# Altium schematic symbol library Audio.SchLib: 119 symbols (part 2 of 2)
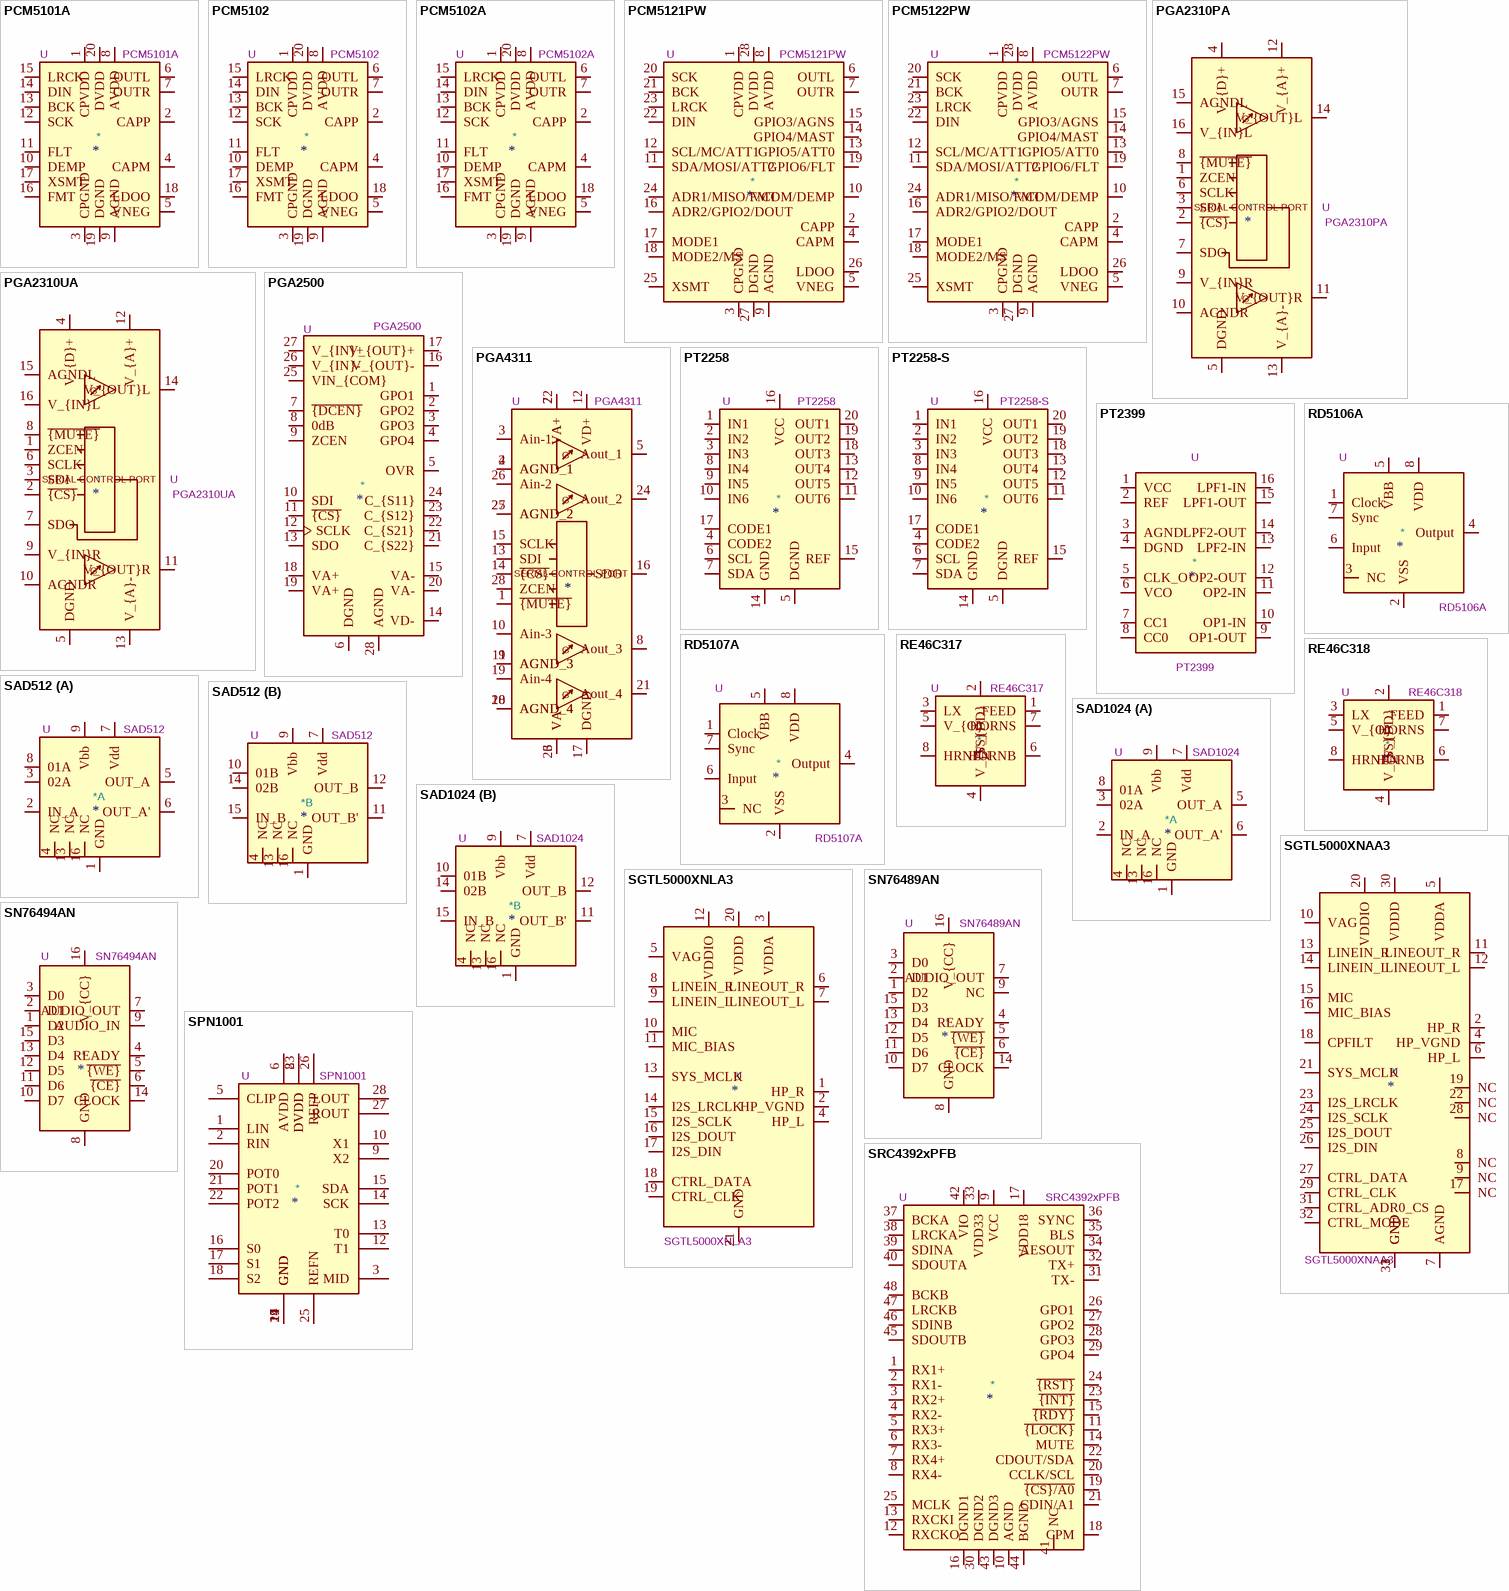
[diagram p6: symbols PCM5101A to SRC4392xPFB]

## PGA2310UA
designator *  value PGA2310UA  Reference: U
2-Channel Audio Volume Control, SPI Interface, +31.5dB to -95.5dB, SOL-16; ki_keywords: audio volume control 2ch spi; ki_fp_filters: SOIC*16W*7.5x10.3mm*P1.27mm*; Footprint: Package_SO:SOIC-16W_7.5x10.3mm_P1.27mm; Datasheet: https://www.ti.com.cn/cn/lit/gpn/pga2310; Description_: 2-Channel Audio Volume Control, SPI Interface, +31.5dB to -95.5dB, SOL-16
pins: 1 ZCEN, 2 ~{{CS}}, 3 SDI, 4 V_{D}+, 5 DGND, 6 SCLK, 7 SDO, 8 ~{{MUTE}}, 9 V_{IN}R, 10 AGNDR, 11 V_{OUT}R, 12 V_{A}+, 13 V_{A}-, 14 V_{OUT}L, 15 AGNDL, 16 V_{IN}L
text: G; SERIAL CONTROL PORT

## PGA2500
designator *  value PGA2500  Reference: U
Digitally Controlled Microphone Preamplifier; ki_fp_filters: SSOP*5.3*10.2mm*P0.65mm*; Footprint: Package_SO:SSOP-28_5.3x10.2mm_P0.65mm; Datasheet: https://www.ti.com/lit/ds/symlink/pga2500.pdf; Description_: Digitally Controlled Microphone Preamplifier; ki_keywords: Digitally Controlled Microphone Preamplifier
pins: 1 GPO1, 2 GPO2, 3 GPO3, 4 GPO4, 5 OVR, 6 DGND, 7 ~{{DCEN}}, 8 0dB, 9 ZCEN, 10 SDI, 11 ~{{CS}}, 12 SCLK, 13 SDO, 14 VD-, 15 VA-, 16 V_{OUT}-, 17 V_{OUT}+, 18 VA+, 19 VA+, 20 VA-, 21 C_{S22}, 22 C_{S21}, 23 C_{S12}, 24 C_{S11}, 25 VIN_{COM}, 26 V_{IN}-, 27 V_{IN}+, 28 AGND

## PGA4311
designator *  value PGA4311  Reference: U
4-Channel Audio Volume Control, SPI Interface, +31.5dB to -95.5dB, SOIC-28W; ki_keywords: audio volume control 4ch spi; ki_fp_filters: SOIC*7.5x17.9mm*P1.27mm*; Footprint: Package_SO:SOIC-28W_7.5x17.9mm_P1.27mm; Datasheet: http://www.ti.com/lit/ds/symlink/pga4311.pdf; Description_: 4-Channel Audio Volume Control, SPI Interface, +31.5dB to -95.5dB, SOIC-28W
pins: 1 ~{{MUTE}}, 2 AGND_1, 3 Ain-1, 4 AGND_1, 5 Aout_1, 6 VA-, 7 VA+, 8 Aout_3, 9 AGND_3, 10 Ain-3, 11 AGND_3, 12 VD+, 13 SDI, 14 ~{{CS}}, 15 SCLK, 16 SDO, 17 DGND, 18 AGND_4, 19 Ain-4, 20 AGND_4, 21 Aout_4, 22 VA+, 23 VA-, 24 Aout_2, 25 AGND_2, 26 Ain-2, 27 AGND_2, 28 ZCEN
text: G; SERIAL CONTROL PORT

## PT2258
designator *  value PT2258  Reference: U
6-Channel Electronic Volume Controller, DIP-20; ki_fp_filters: DIP*W7.62mm*; Footprint: Package_DIP:DIP-20_W7.62mm; Datasheet: http://www.princeton.com.tw/Portals/0/Product/PT2258-s.pdf; Description_: 6-Channel Electronic Volume Controller, DIP-20; ki_keywords: Volume
pins: 1 IN1, 2 IN2, 3 IN3, 4 CODE2, 5 DGND, 6 SCL, 7 SDA, 8 IN4, 9 IN5, 10 IN6, 11 OUT6, 12 OUT5, 13 OUT4, 14 GND, 15 REF, 16 VCC, 17 CODE1, 18 OUT3, 19 OUT2, 20 OUT1

## PT2258-S
designator *  value PT2258-S  Reference: U
6-Channel Electronic Volume Controller, SOP-20; ki_fp_filters: SO*12.8x7.5mm*P1.27mm*; Footprint: Package_SO:SO-20_12.8x7.5mm_P1.27mm; Datasheet: http://www.princeton.com.tw/Portals/0/Product/PT2258-s.pdf; Description_: 6-Channel Electronic Volume Controller, SOP-20; ki_keywords: Volume
pins: 1 IN1, 2 IN2, 3 IN3, 4 CODE2, 5 DGND, 6 SCL, 7 SDA, 8 IN4, 9 IN5, 10 IN6, 11 OUT6, 12 OUT5, 13 OUT4, 14 GND, 15 REF, 16 VCC, 17 CODE1, 18 OUT3, 19 OUT2, 20 OUT1

## PT2399
designator *  value PT2399  Reference: U
Echo Processor IC, DIP-16; ki_keywords: CMOS ADC DAC 44K Digital processing VCO; ki_fp_filters: DIP*W7.62mm*; Footprint: Package_DIP:DIP-16_W7.62mm; Datasheet: http://www.princeton.com.tw/Portals/0/Product/PT2399_1.pdf; Description_: Echo Processor IC, DIP-16
pins: 1 VCC, 2 REF, 3 AGND, 4 DGND, 5 CLK_O, 6 VCO, 7 CC1, 8 CC0, 9 OP1-OUT, 10 OP1-IN, 11 OP2-IN, 12 OP2-OUT, 13 LPF2-IN, 14 LPF2-OUT, 15 LPF1-OUT, 16 LPF1-IN

## RD5106A
designator *  value RD5106A  Reference: U
Analog Delay Line 256 sample bucket brigade device, 512usec to more than 1second, input signal frequency range 0 to 170KHz, clock frequency range 500Hz to 1MHz; ki_keywords: EG&G RETICON BBD N-channel silicon-gate; ki_fp_filters: DIP-8*; Datasheet: http://pdf.datasheetarchive.com/indexerfiles/Scans-091/DSAHI00048836.pdf; Description_: Analog Delay Line 256 sample bucket brigade device, 512usec to more than 1second, input signal frequency range 0 to 170KHz, clock frequency range 500Hz to 1MHz
pins: 1 Clock, 2 VSS, 3 NC, 4 Output, 5 VBB, 6 Input, 7 Sync, 8 VDD

## RD5107A
designator *  value RD5107A  Reference: U
Analog Delay Line 512 sample bucket brigade device, 1msec to more than 2seconds, input signal frequency range 0 to 170KHz, clock frequency range 500Hz to 1MHz; ki_keywords: EG&G RETICON BBD N-channel silicon-gate; ki_fp_filters: DIP-8*; Datasheet: http://pdf.datasheetarchive.com/indexerfiles/Scans-091/DSAHI00048836.pdf; Description_: Analog Delay Line 512 sample bucket brigade device, 1msec to more than 2seconds, input signal frequency range 0 to 170KHz, clock frequency range 500Hz to 1MHz
pins: 1 Clock, 2 VSS, 3 NC, 4 Output, 5 VBB, 6 Input, 7 Sync, 8 VDD

## RE46C317
designator *  value RE46C317  Reference: U
Piezoelectric Horn Driver with Boost Converter, 3.3V supply, Tri-State Horn Enable, SOIC-8; ki_keywords: Microchip step-up; ki_fp_filters: SOIC*8*3.9x4.9mm*P1.27mm* DIP*W7.62mm*; Datasheet: https://ww1.microchip.com/downloads/en/DeviceDoc/22301B.pdf; Description_: Piezoelectric Horn Driver with Boost Converter, 3.3V supply, Tri-State Horn Enable, SOIC-8
pins: 1 FEED, 2 V_{DD}, 3 LX, 4 V_{SS}, 5 V_{O}, 6 HORNB, 7 HORNS, 8 HRNEN

## RE46C318
designator *  value RE46C318  Reference: U
Piezoelectric Horn Driver with Boost Converter, 3.3V supply, SOIC-8; ki_keywords: Horn driver Piezo; ki_fp_filters: SOIC*8*3.9x4.9mm*P1.27mm* DIP*W7.62mm*; Datasheet: http://ww1.microchip.com/downloads/en/DeviceDoc/22301B.pdf; Description_: Piezoelectric Horn Driver with Boost Converter, 3.3V supply, SOIC-8
pins: 1 FEED, 2 V_{DD}, 3 LX, 4 V_{SS}, 5 V_{O}, 6 HORNB, 7 HORNS, 8 HRNEN

## SAD512
designator *  value SAD512  Reference: U
SAD-512 ANALOG DELAY LINE, bucket brigade device, 512 stages, signal frequency range 0 to 200KHz, clock frequency range 1.5KHz to 1.5MHz; ki_keywords: EG&G RETICON BBD N-channel silicon-gate; ki_fp_filters: DIP-16*; Datasheet: http://thmq.mysteria.cz/em1022/SAD1024.pdf; Description_: SAD-512 ANALOG DELAY LINE, bucket brigade device, 512 stages, signal frequency range 0 to 200KHz, clock frequency range 1.5KHz to 1.5MHz
part A pins: 1 GND, 2 IN_A, 3 02A, 4 NC, 5 OUT_A, 6 OUT_A', 7 Vdd, 8 01A, 9 Vbb, 13 NC, 16 NC
part B pins: 1 GND, 4 NC, 7 Vdd, 9 Vbb, 10 01B, 11 OUT_B', 12 OUT_B, 13 NC, 14 02B, 15 IN_B, 16 NC

## SAD1024
designator *  value SAD1024  Reference: U
SAD-1024 DUAL ANALOG DELAY LINE, bucket brigade device, 2 independent 512 stages, signal frequency range 0 to 200KHz, clock frequency range 1.5KHz to 1.5MHz; ki_keywords: EG&G RETICON BBD N-channel silicon-gate; ki_fp_filters: DIP-16*; Datasheet: http://thmq.mysteria.cz/em1022/SAD1024.pdf; Description_: SAD-1024 DUAL ANALOG DELAY LINE, bucket brigade device, 2 independent 512 stages, signal frequency range 0 to 200KHz, clock frequency range 1.5KHz to 1.5MHz
part A pins: 1 GND, 2 IN_A, 3 02A, 4 NC, 5 OUT_A, 6 OUT_A', 7 Vdd, 8 01A, 9 Vbb, 13 NC, 16 NC
part B pins: 1 GND, 4 NC, 7 Vdd, 9 Vbb, 10 01B, 11 OUT_B', 12 OUT_B, 13 NC, 14 02B, 15 IN_B, 16 NC

## SGTL5000XNAA3
designator *  value SGTL5000XNAA3  Reference: U
Low Power Stereo Codec with Headphone Amp, QFN-32; ki_fp_filters: QFN*1EP*5x5mm*P0.5mm*; Footprint: Package_DFN_QFN:QFN-32-1EP_5x5mm_P0.5mm_EP3.6x3.6mm; Datasheet: https://www.nxp.com/docs/en/data-sheet/SGTL5000.pdf; Description_: Low Power Stereo Codec with Headphone Amp, QFN-32; ki_keywords: Codec
pins: 1 GND, 2 HP_R, 3 GND, 4 HP_VGND, 5 VDDA, 6 HP_L, 7 AGND, 8 NC, 9 NC, 10 VAG, 11 LINEOUT_R, 12 LINEOUT_L, 13 LINEIN_R, 14 LINEIN_L, 15 MIC, 16 MIC_BIAS, 17 NC, 18 CPFILT, 19 NC, 20 VDDIO, 21 SYS_MCLK, 22 NC, 23 I2S_LRCLK, 24 I2S_SCLK, 25 I2S_DOUT, 26 I2S_DIN, 27 CTRL_DATA, 28 NC, 29 CTRL_CLK, 30 VDDD, 31 CTRL_ADR0_CS, 32 CTRL_MODE, 33 GND

## SGTL5000XNLA3
designator *  value SGTL5000XNLA3  Reference: U
Low Power Stereo Codec with Headphone Amp, QFN-20; ki_fp_filters: QFN*1EP*3x3mm*P0.4mm*; Footprint: Package_DFN_QFN:QFN-20-1EP_3x3mm_P0.4mm_EP1.65x1.65mm; Datasheet: https://www.nxp.com/docs/en/data-sheet/SGTL5000.pdf; Description_: Low Power Stereo Codec with Headphone Amp, QFN-20; ki_keywords: Codec
pins: 1 HP_R, 2 HP_VGND, 3 VDDA, 4 HP_L, 5 VAG, 6 LINEOUT_R, 7 LINEOUT_L, 8 LINEIN_R, 9 LINEIN_L, 10 MIC, 11 MIC_BIAS, 12 VDDIO, 13 SYS_MCLK, 14 I2S_LRCLK, 15 I2S_SCLK, 16 I2S_DOUT, 17 I2S_DIN, 18 CTRL_DATA, 19 CTRL_CLK, 20 VDDD, 21 GND

## SN76489AN
designator *  value SN76489AN  Reference: U
Digital Complex Sound Generator, 3 square wave channels, 1 noise channel, up to 4MHz clock input, DIP-16; ki_keywords: Texas-Instruments programmable-sound-generator PSG TTL-compatible Obsolete; ki_fp_filters: DIP*W7.62mm*; Footprint: Package_DIP:DIP-16_W7.62mm; Datasheet: https://www.vgmpf.com/Wiki/images/7/78/SN76489AN_-_Manual.pdf; Description_: Digital Complex Sound Generator, 3 square wave channels, 1 noise channel, up to 4MHz clock input, DIP-16
pins: 1 D2, 2 D1, 3 D0, 4 READY, 5 ~{{WE}}, 6 ~{{CE}}, 7 AUDIO_OUT, 8 GND, 9 NC, 10 D7, 11 D6, 12 D5, 13 D4, 14 CLOCK, 15 D3, 16 V_{CC}

## SN76494AN
designator *  value SN76494AN  Reference: U
Digital Complex Sound Generator, 3 square wave channels, 1 noise channel, up to 500kHz clock input, audio input pin, DIP-16; ki_keywords: Texas-Instruments programmable-sound-generator PSG TTL-compatible SN76489AN-replacement Obsolete; ki_fp_filters: DIP*W7.62mm*; Footprint: Package_DIP:DIP-16_W7.62mm; Datasheet: https://www.vgmpf.com/Wiki/images/9/9c/SN76494_-_Manual.pdf; Description_: Digital Complex Sound Generator, 3 square wave channels, 1 noise channel, up to 500kHz clock input, audio input pin, DIP-16
pins: 1 D2, 2 D1, 3 D0, 4 READY, 5 ~{{WE}}, 6 ~{{CE}}, 7 AUDIO_OUT, 8 GND, 9 AUDIO_IN, 10 D7, 11 D6, 12 D5, 13 D4, 14 CLOCK, 15 D3, 16 V_{CC}

## SPN1001
designator *  value SPN1001  Reference: U
Spin Semiconductor FV-1 Reverb IC, SOIC-28W; ki_keywords: SpinSemi FV-1 SPN1001; ki_fp_filters: SO*; Footprint: Package_SO:SOIC-28W_7.5x17.9mm_P1.27mm; Datasheet: http://www.spinsemi.com/Products/datasheets/spn1001/FV-1.pdf; Description_: Spin Semiconductor FV-1 Reverb IC, SOIC-28W
pins: 1 LIN, 2 RIN, 3 MID, 4 GND, 5 CLIP, 6 AVDD, 7 GND, 8 DVDD, 9 X2, 10 X1, 11 GND, 12 T1, 13 T0, 14 SCK, 15 SDA, 16 S0, 17 S1, 18 S2, 19 GND, 20 POT0, 21 POT1, 22 POT2, 23 DVDD, 24 GND, 25 REFN, 26 REFP, 27 ROUT, 28 LOUT

## SRC4392xPFB
designator *  value SRC4392xPFB  Reference: U
Two-Channel, Asynchronous Sample Rate Converter with Integrated Digital Audio Interface Receiver and Transmitter, TQFP-48; ki_keywords: audio sample rate converter; ki_fp_filters: TQFP*7x7mm*P0.5mm*; Footprint: Package_QFP:TQFP-48_7x7mm_P0.5mm; Datasheet: http://www.ti.com/lit/ds/symlink/src4392.pdf; Description_: Two-Channel, Asynchronous Sample Rate Converter with Integrated Digital Audio Interface Receiver and Transmitter, TQFP-48
pins: 1 RX1+, 2 RX1-, 3 RX2+, 4 RX2-, 5 RX3+, 6 RX3-, 7 RX4+, 8 RX4-, 9 VCC, 10 AGND, 11 ~{{LOCK}}, 12 RXCKO, 13 RXCKI, 14 MUTE, 15 ~{{RDY}}, 16 DGND1, 17 VDD18, 18 CPM, 19 ~{{CS}/A0}, 20 CCLK/SCL, 21 CDIN/A1, 22 CDOUT/SDA, 23 ~{{INT}}, 24 ~{{RST}}, 25 MCLK, 26 GPO1, 27 GPO2, 28 GPO3, 29 GPO4, 30 DGND2, 31 TX-, 32 TX+, 33 VDD33, 34 AESOUT, 35 BLS, 36 SYNC, 37 BCKA, 38 LRCKA, 39 SDINA, 40 SDOUTA, 41 NC, 42 VIO, 43 DGND3, 44 BGND, 45 SDOUTB, 46 SDINB, 47 LRCKB, 48 BCKB

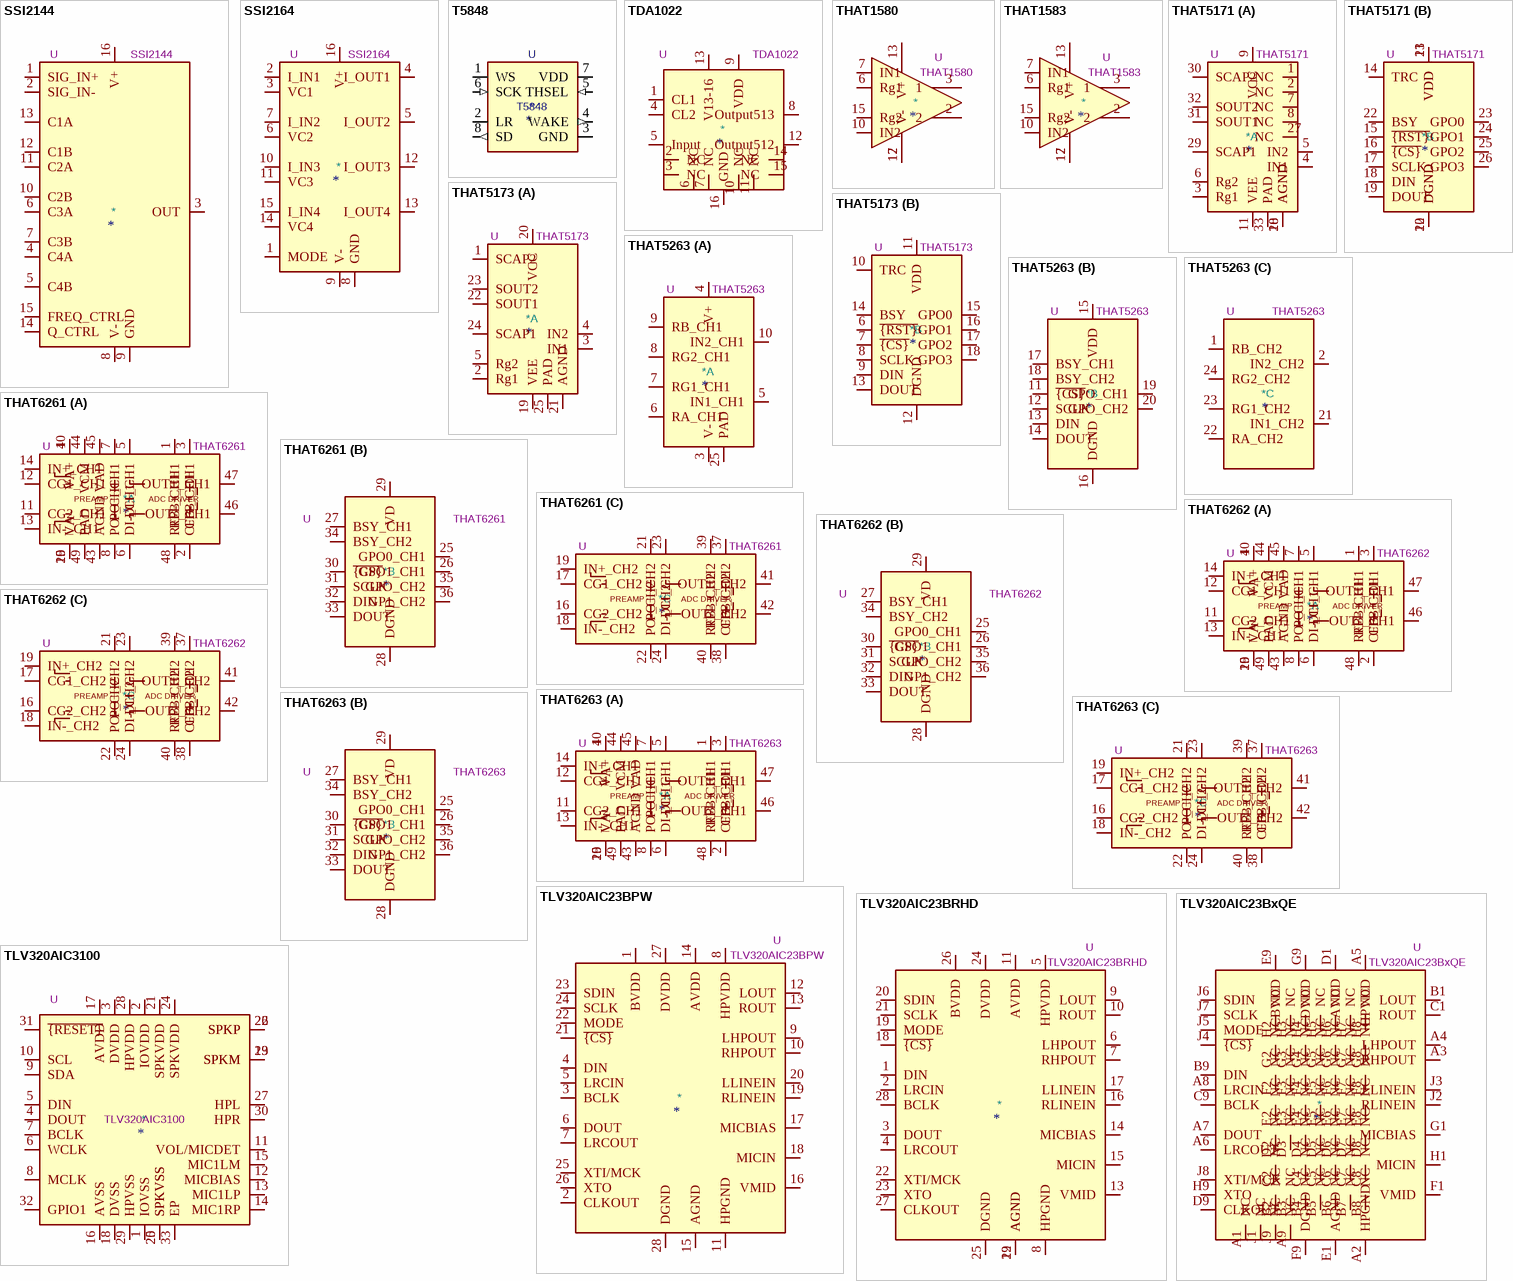
[diagram p4: symbols SSI2144 to TLV320AIC3100]

## SSI2144
designator *  value SSI2144  Reference: U
Four-pole VCF, SSOP-16; ki_keywords: Sound Semiconductor VCF SSM2044; ki_fp_filters: SSOP*3.9x4.9mm*P0.635mm*; Footprint: Package_SO:SSOP-16_3.9x4.9mm_P0.635mm; Datasheet: http://www.soundsemiconductor.com/downloads/ssi2144datasheet.pdf; Description_: Four-pole VCF, SSOP-16
pins: 1 SIG_IN+, 2 SIG_IN-, 3 OUT, 4 C4A, 5 C4B, 6 C3A, 7 C3B, 8 V-, 9 GND, 10 C2B, 11 C2A, 12 C1B, 13 C1A, 14 Q_CTRL, 15 FREQ_CTRL, 16 V+

## SSI2164
designator *  value SSI2164  Reference: U
Quad VCA, SOIC-16; ki_keywords: Sound Semiconductor VCA SSM2164; ki_fp_filters: SOIC*3.9x9.9mm*P1.27mm*; Footprint: Package_SO:SOIC-16_3.9x9.9mm_P1.27mm; Datasheet: http://www.soundsemiconductor.com/downloads/ssi2164datasheet.pdf; Description_: Quad VCA, SOIC-16
pins: 1 MODE, 2 I_IN1, 3 VC1, 4 I_OUT1, 5 I_OUT2, 6 VC2, 7 I_IN2, 8 GND, 9 V-, 10 I_IN3, 11 VC3, 12 I_OUT3, 13 I_OUT4, 14 VC4, 15 I_IN4, 16 V+

## T5848
designator *  value T5848  Reference: U
T5848 - Bottom Port I2S Digital Output Multi-Mode Microphone; Footprint: Audio_Sensor_User:InvenSense_T5848-8_3.5x2.65mm; Datasheet: https://invensense.tdk.com/wp-content/uploads/2024/04/DS-000479-T5848-Datasheet-v1.0.pdf; Description_: T5848 - Bottom Port I2S Digital Output Multi-Mode Microphone
pins: 1 WS (io), 2 LR (power), 3 GND (power), 4 WAKE (out), 5 THSEL (in), 6 SCK (in), 7 VDD (power), 8 SD (out)

## TDA1022
designator *  value TDA1022  Reference: U
BUCKET BRIGADE DELAY LINE FOR ANALOGUE SIGNALS, 512 stages, delay time 0.512ms to 51.2ms, signal frequency range 0 to 45KHz, clock frequency range 5KHz to 500KHz, DIP-16; ki_keywords: PHILIPS BBD MOS monolithic delay analogue; ki_fp_filters: DIP*W7.62mm*; Footprint: Package_DIP:DIP-16_W7.62mm; Datasheet: http://thmq.mysteria.cz/em1022/TDA1022.pdf; Description_: BUCKET BRIGADE DELAY LINE FOR ANALOGUE SIGNALS, 512 stages, delay time 0.512ms to 51.2ms, signal frequency range 0 to 45KHz, clock frequency range 5KHz to 500KHz, DIP-16
pins: 1 CL1, 2 NC, 3 NC, 4 CL2, 5 Input, 6 NC, 7 NC, 8 Output513, 9 VDD, 10 NC, 11 NC, 12 Output512, 13 V13-16, 14 NC, 15 NC, 16 GND

## THAT1580
designator *  value THAT1580  Reference: U
Low-Noise, Differential Audio Preamplifier IC, 0.005% THD+N, -134.8dBu EIN, QFN-16; ki_keywords: diff amp mic preamp; ki_fp_filters: QFN*1EP*4x4mm*P0.65mm*; Footprint: Package_DFN_QFN:QFN-16-1EP_4x4mm_P0.65mm_EP2.1x2.1mm_ThermalVias; Datasheet: http://www.thatcorp.com/datashts/THAT_1580_Datasheet.pdf; Description_: Low-Noise, Differential Audio Preamplifier IC, 0.005% THD+N, -134.8dBu EIN, QFN-16
pins: 2, 3 1, 6 Rg1, 7 IN1, 10 IN2, 12 V-, 13 V+, 15 Rg2, 17 V-

## THAT1583
designator *  value THAT1583  Reference: U
Low-Noise, Differential Audio Preamplifier IC, 0.006% THD+N, -128.9dBu EIN, QFN-16; ki_keywords: diff amp mic preamp; ki_fp_filters: QFN*1EP*4x4mm*P0.65mm*; Footprint: Package_DFN_QFN:QFN-16-1EP_4x4mm_P0.65mm_EP2.1x2.1mm_ThermalVias; Datasheet: http://www.thatcorp.com/datashts/THAT_1583_Datasheet.pdf; Description_: Low-Noise, Differential Audio Preamplifier IC, 0.006% THD+N, -128.9dBu EIN, QFN-16
pins: 2, 3 1, 6 Rg1, 7 IN1, 10 IN2, 12 V-, 13 V+, 15 Rg2, 17 V-

## THAT5171
designator *  value THAT5171  Reference: U
High-Performance Digital Preamplifier Controller IC, QFN-32; ki_keywords: mic preamp gain controller; ki_fp_filters: QFN*1EP*7x7mm*P0.65mm*; Footprint: Package_DFN_QFN:QFN-32-1EP_7x7mm_P0.65mm_EP5.4x5.4mm; Datasheet: http://www.thatcorp.com/datashts/THAT_5171_Datasheet.pdf; Description_: High-Performance Digital Preamplifier Controller IC, QFN-32
part A pins: 1 NC, 2 NC, 3 Rg1, 4 IN1, 5 IN2, 6 Rg2, 7 NC, 8 NC, 9 VCC, 10 AGND, 11 VEE, 27 NC, 28 AGND, 29 SCAP1, 30 SCAP2, 31 SOUT1, 32 SOUT2, 33 PAD
part B pins: 12 DGND, 13 VDD, 14 TRC, 15 ~{{RST}}, 16 ~{{CS}}, 17 SCLK, 18 DIN, 19 DOUT, 20 DGND, 21 VDD, 22 BSY, 23 GPO0, 24 GPO1, 25 GPO2, 26 GPO3

## THAT5173
designator *  value THAT5173  Reference: U
Audio Preamplifier Digital Controller IC, QFN-24; ki_keywords: mic preamp gain controller; ki_fp_filters: QFN*1EP*5x5mm*P0.65mm*; Footprint: Package_DFN_QFN:QFN-24-1EP_5x5mm_P0.65mm_EP3.4x3.4mm; Datasheet: http://www.thatcorp.com/datashts/THAT_5173_Datasheet.pdf; Description_: Audio Preamplifier Digital Controller IC, QFN-24
part A pins: 1 SCAP2, 2 Rg1, 3 IN1, 4 IN2, 5 Rg2, 19 VEE, 20 VCC, 21 AGND, 22 SOUT1, 23 SOUT2, 24 SCAP1, 25 PAD
part B pins: 6 ~{{RST}}, 7 ~{{CS}}, 8 SCLK, 9 DIN, 10 TRC, 11 VDD, 12 DGND, 13 DOUT, 14 BSY, 15 GPO0, 16 GPO1, 17 GPO2, 18 GPO3

## THAT5263
designator *  value THAT5263  Reference: U
2-Channel Digital Preamplifier Controller IC, QFN-24; ki_keywords: dual mic preamp gain controller; ki_fp_filters: QFN*1EP*5x5mm*P0.65mm*; Footprint: Package_DFN_QFN:QFN-24-1EP_5x5mm_P0.65mm_EP3.4x3.4mm; Datasheet: http://www.thatcorp.com/datashts/THAT_5263_Datasheet.pdf; Description_: 2-Channel Digital Preamplifier Controller IC, QFN-24
part A pins: 3 V-, 4 V+, 5 IN1_CH1, 6 RA_CH1, 7 RG1_CH1, 8 RG2_CH1, 9 RB_CH1, 10 IN2_CH1, 25 PAD
part B pins: 11 ~{{CS}}, 12 SCLK, 13 DIN, 14 DOUT, 15 VDD, 16 DGND, 17 BSY_CH1, 18 BSY_CH2, 19 GPO_CH1, 20 GPO_CH2
part C pins: 1 RB_CH2, 2 IN2_CH2, 21 IN1_CH2, 22 RA_CH2, 23 RG1_CH2, 24 RG2_CH2

## THAT6261
designator *  value THAT6261  Reference: U
2-Channel Low-Noise Programmable-Gain Preamplifier - ADC Driver IC, 1dB Step, QFN-48; ki_keywords: dual mic preamp; ki_fp_filters: QFN*1EP*7x7mm*P0.5mm*; Footprint: Package_DFN_QFN:QFN-48-1EP_7x7mm_P0.5mm_EP5.45x5.45mm; Datasheet: http://www.thatcorp.com/datashts/THAT_626x_Datasheet.pdf; Description_: 2-Channel Low-Noise Programmable-Gain Preamplifier - ADC Driver IC, 1dB Step, QFN-48
part A pins: 1 RFB+_CH1, 2 CFB-_CH1, 3 CFB+_CH1, 4 VA+, 5 DI+_CH1, 6 DI-_CH1, 7 PO+_CH1, 8 PO-_CH1, 9 VA-, 10 VA+, 11 CG2_CH1, 12 CG1_CH1, 13 IN-_CH1, 14 IN+_CH1, 15 VA-, 20 VA-, 43 AGND, 44 VCM, 45 VAD, 46 OUT-_CH1, 47 OUT+_CH1, 48 RFB-_CH1, 49 PAD
part B pins: 25 GPO0_CH1, 26 GPO1_CH1, 27 BSY_CH1, 28 DGND, 29 VD, 30 ~{{CS}}, 31 SCLK, 32 DIN, 33 DOUT, 34 BSY_CH2, 35 GPO_CH2, 36 GP1_CH2
part C pins: 16 CG2_CH2, 17 CG1_CH2, 18 IN-_CH2, 19 IN+_CH2, 21 PO+_CH2, 22 PO-_CH2, 23 DI+_CH2, 24 DI-_CH2, 37 CFB+_CH2, 38 CFB-_CH2, 39 RFB+_CH2, 40 RFB-_CH2, 41 OUT+_CH2, 42 OUT-_CH2
part A text: PREAMP; ADC DRIVER
part C text: PREAMP; ADC DRIVER

## THAT6262
designator *  value THAT6262  Reference: U
2-Channel Low-Noise Programmable-Gain Preamplifier - ADC Driver IC, 2dB Step, QFN-48; ki_keywords: dual mic preamp; ki_fp_filters: QFN*1EP*7x7mm*P0.5mm*; Footprint: Package_DFN_QFN:QFN-48-1EP_7x7mm_P0.5mm_EP5.45x5.45mm; Datasheet: http://www.thatcorp.com/datashts/THAT_626x_Datasheet.pdf; Description_: 2-Channel Low-Noise Programmable-Gain Preamplifier - ADC Driver IC, 2dB Step, QFN-48
part A pins: 1 RFB+_CH1, 2 CFB-_CH1, 3 CFB+_CH1, 4 VA+, 5 DI+_CH1, 6 DI-_CH1, 7 PO+_CH1, 8 PO-_CH1, 9 VA-, 10 VA+, 11 CG2_CH1, 12 CG1_CH1, 13 IN-_CH1, 14 IN+_CH1, 15 VA-, 20 VA-, 43 AGND, 44 VCM, 45 VAD, 46 OUT-_CH1, 47 OUT+_CH1, 48 RFB-_CH1, 49 PAD
part B pins: 25 GPO0_CH1, 26 GPO1_CH1, 27 BSY_CH1, 28 DGND, 29 VD, 30 ~{{CS}}, 31 SCLK, 32 DIN, 33 DOUT, 34 BSY_CH2, 35 GPO_CH2, 36 GP1_CH2
part C pins: 16 CG2_CH2, 17 CG1_CH2, 18 IN-_CH2, 19 IN+_CH2, 21 PO+_CH2, 22 PO-_CH2, 23 DI+_CH2, 24 DI-_CH2, 37 CFB+_CH2, 38 CFB-_CH2, 39 RFB+_CH2, 40 RFB-_CH2, 41 OUT+_CH2, 42 OUT-_CH2
part A text: PREAMP; ADC DRIVER
part C text: PREAMP; ADC DRIVER

## THAT6263
designator *  value THAT6263  Reference: U
2-Channel Low-Noise Programmable-Gain Preamplifier - ADC Driver IC, 3dB Step, QFN-48; ki_keywords: dual mic preamp; ki_fp_filters: QFN*1EP*7x7mm*P0.5mm*; Footprint: Package_DFN_QFN:QFN-48-1EP_7x7mm_P0.5mm_EP5.45x5.45mm; Datasheet: http://www.thatcorp.com/datashts/THAT_626x_Datasheet.pdf; Description_: 2-Channel Low-Noise Programmable-Gain Preamplifier - ADC Driver IC, 3dB Step, QFN-48
part A pins: 1 RFB+_CH1, 2 CFB-_CH1, 3 CFB+_CH1, 4 VA+, 5 DI+_CH1, 6 DI-_CH1, 7 PO+_CH1, 8 PO-_CH1, 9 VA-, 10 VA+, 11 CG2_CH1, 12 CG1_CH1, 13 IN-_CH1, 14 IN+_CH1, 15 VA-, 20 VA-, 43 AGND, 44 VCM, 45 VAD, 46 OUT-_CH1, 47 OUT+_CH1, 48 RFB-_CH1, 49 PAD
part B pins: 25 GPO0_CH1, 26 GPO1_CH1, 27 BSY_CH1, 28 DGND, 29 VD, 30 ~{{CS}}, 31 SCLK, 32 DIN, 33 DOUT, 34 BSY_CH2, 35 GPO_CH2, 36 GP1_CH2
part C pins: 16 CG2_CH2, 17 CG1_CH2, 18 IN-_CH2, 19 IN+_CH2, 21 PO+_CH2, 22 PO-_CH2, 23 DI+_CH2, 24 DI-_CH2, 37 CFB+_CH2, 38 CFB-_CH2, 39 RFB+_CH2, 40 RFB-_CH2, 41 OUT+_CH2, 42 OUT-_CH2
part A text: PREAMP; ADC DRIVER
part C text: PREAMP; ADC DRIVER

## TLV320AIC23BPW
designator *  value TLV320AIC23BPW  Reference: U
Stero Audio CODEC, 8- to 96-kHz, With Integrated Headphone Amplifier, TSSOP-28; ki_keywords: audio codec 2ch 96kHz headphone amplifier; ki_fp_filters: TSSOP*4.4x9.7mm*P0.65mm*; Footprint: Package_SO:TSSOP-28_4.4x9.7mm_P0.65mm; Datasheet: http://www.ti.com/lit/ds/symlink/tlv320aic23b.pdf; Description_: Stero Audio CODEC, 8- to 96-kHz, With Integrated Headphone Amplifier, TSSOP-28
pins: 1 BVDD, 2 CLKOUT, 3 BCLK, 4 DIN, 5 LRCIN, 6 DOUT, 7 LRCOUT, 8 HPVDD, 9 LHPOUT, 10 RHPOUT, 11 HPGND, 12 LOUT, 13 ROUT, 14 AVDD, 15 AGND, 16 VMID, 17 MICBIAS, 18 MICIN, 19 RLINEIN, 20 LLINEIN, 21 ~{{CS}}, 22 MODE, 23 SDIN, 24 SCLK, 25 XTI/MCK, 26 XTO, 27 DVDD, 28 DGND

## TLV320AIC23BRHD
designator *  value TLV320AIC23BRHD  Reference: U
Stero Audio CODEC, 8- to 96-kHz, With Integrated Headphone Amplifier, QFN-28; ki_keywords: audio codec 2ch 96kHz headphone amplifier; ki_fp_filters: QFN*5x5mm*P0.5mm*; Footprint: Package_DFN_QFN:QFN-28-1EP_5x5mm_P0.5mm_EP3.35x3.35mm; Datasheet: http://www.ti.com/lit/ds/symlink/tlv320aic23b.pdf; Description_: Stero Audio CODEC, 8- to 96-kHz, With Integrated Headphone Amplifier, QFN-28
pins: 1 DIN, 2 LRCIN, 3 DOUT, 4 LRCOUT, 5 HPVDD, 6 LHPOUT, 7 RHPOUT, 8 HPGND, 9 LOUT, 10 ROUT, 11 AVDD, 12 AGND, 13 VMID, 14 MICBIAS, 15 MICIN, 16 RLINEIN, 17 LLINEIN, 18 ~{{CS}}, 19 MODE, 20 SDIN, 21 SCLK, 22 XTI/MCK, 23 XTO, 24 DVDD, 25 DGND, 26 BVDD, 27 CLKOUT, 28 BCLK, 29 AGND

## TLV320AIC23BxQE
designator *  value TLV320AIC23BxQE  Reference: U
Stero Audio CODEC, 8- to 96-kHz, With Integrated Headphone Amplifier, BGA-32; ki_keywords: audio codec 2ch 96kHz headphone amplifier; ki_fp_filters: *MicroStar*Junior*BGA*5*x5*mm*P0.5mm*; Footprint: Package_BGA:Texas_MicroStar_Junior_BGA-80_5.0x5.0mm_Layout9x9_P0.5mm; Datasheet: http://www.ti.com/lit/ds/symlink/tlv320aic23b.pdf; Description_: Stero Audio CODEC, 8- to 96-kHz, With Integrated Headphone Amplifier, BGA-32
pins: A1 NC, A2 HPGND, A3 RHPOUT, A4 LHPOUT, A5 HPVDD, A6 LRCOUT, A7 DOUT, A8 LRCIN, A9 NC, B1 LOUT, B2 NC, B3 NC, B4 NC, B5 NC, B6 NC, B7 NC, B8 NC, B9 DIN, C1 ROUT, C2 NC, C4 NC, C5 NC, C6 NC, C7 NC, C8 NC, C9 BCLK, D1 AVDD, D2 NC, D3 NC, D4 NC, D5 NC, D6 NC, D7 NC, D8 NC, D9 CLKOUT, E1 AGND, E2 NC, E3 NC, E4 NC, E5 NC, E6 NC, E7 NC, E8 NC, E9 BVDD, F1 VMID, F2 NC, F3 NC, F4 NC, F5 NC, F6 NC, F7 NC, F8 NC, F9 DGND, G1 MICBIAS, G2 NC, G3 NC, G4 NC, G5 NC, G6 NC, G7 NC, G8 NC, G9 DVDD, H1 MICIN, H2 NC, H3 NC, H4 NC, H5 NC, H6 NC, H7 NC, H8 NC, H9 XTO, J1 NC, J2 RLINEIN, J3 LLINEIN, J4 ~{{CS}}, J5 MODE, J6 SDIN, J7 SCLK, J8 XTI/MCK, J9 NC

## TLV320AIC3100
designator *  value TLV320AIC3100  Reference: U
Low Power Audio Codec with Audio Processing and Mono Class‑D Amplifier, VQFN-32; ki_keywords: audio codec 2ch 192kHz class-d amplifier; ki_fp_filters: VQFN*1EP*5x5mm*P0.5mm*; Footprint: Package_DFN_QFN:VQFN-32-1EP_5x5mm_P0.5mm_EP3.5x3.5mm; Datasheet: http://www.ti.com/lit/ds/symlink/tlv320aic3100.pdf; Description_: Low Power Audio Codec with Audio Processing and Mono Class‑D Amplifier, VQFN-32
pins: 1 IOVSS, 2 IOVDD, 3 DVDD, 4 DOUT, 5 DIN, 6 WCLK, 7 BCLK, 8 MCLK, 9 SDA, 10 SCL, 11 VOL/MICDET, 12 MICBIAS, 13 MIC1LP, 14 MIC1RP, 15 MIC1LM, 16 AVSS, 17 AVDD, 18 DVSS, 19 SPKM, 20 SPKVSS, 21 SPKVDD, 22 SPKP, 23 SPKM, 24 SPKVDD, 25 SPKVSS, 26 SPKP, 27 HPL, 28 HPVDD, 29 HPVSS, 30 HPR, 31 ~{{RESET}}, 32 GPIO1, 33 EP

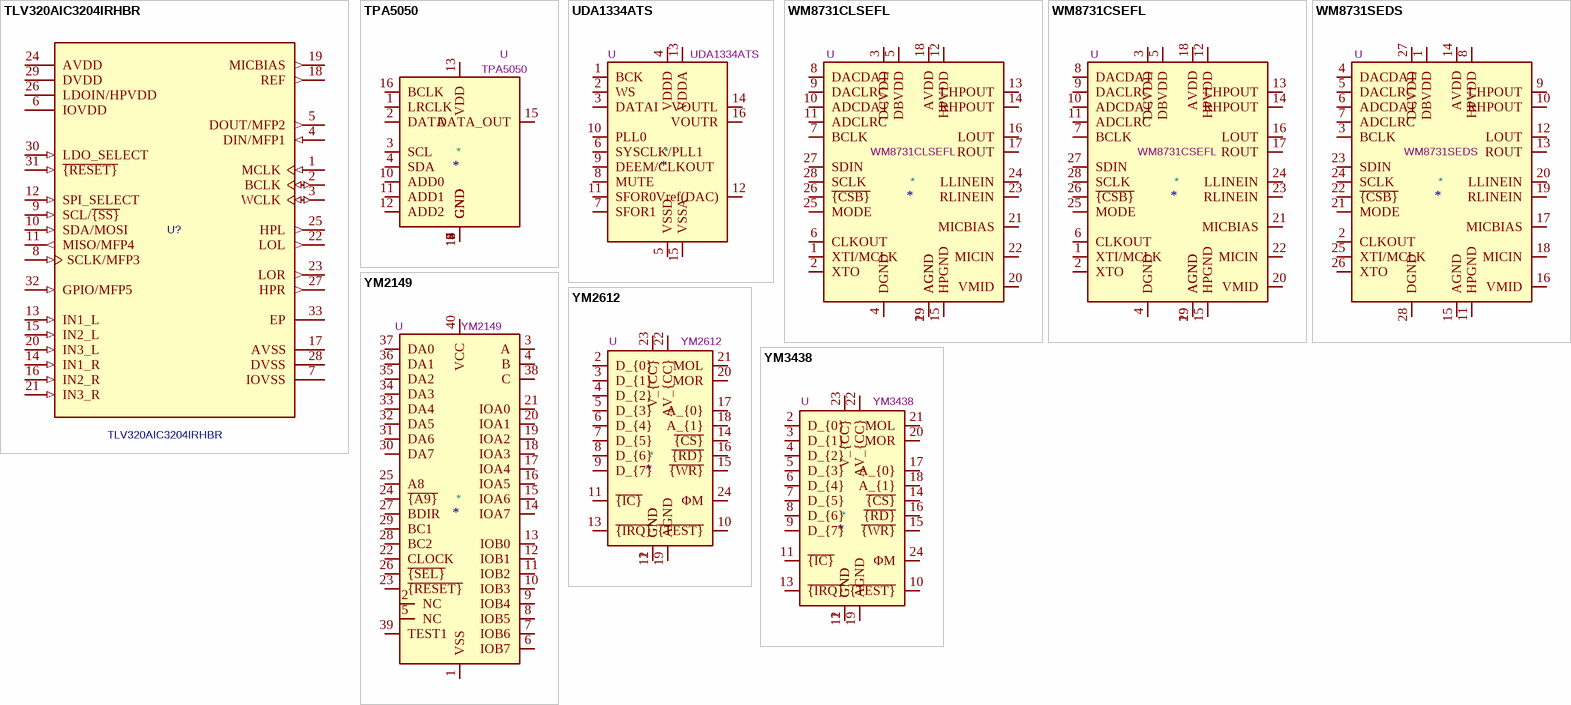
[diagram p5: symbols TLV320AIC3204IRHBR to YM3438]

## TLV320AIC3204IRHBR
designator U?  value TLV320AIC3204IRHBR  (hidden comment: *)
Very-Low-Power Stereo Audio CODEC With PowerTune™ Technology; Manufacturer: Texas Instruments; Manufacturer Lifecycle Status: ACTIVE; Interface: I2C, SPI, Serial; Max Supply Voltage: 3.6V; Min Supply Voltage: 1.1V; Number of A/D Converters: 2; Number of Analog Inputs: 6; Number of Analog Outputs: 4; Power Consumption: 4.1mW; Resolution: 4B; Sampling Rate: 192ksps; Signal to Noise Ratio (SNR): 100dB; Reference: U; Datasheet: https://www.ti.com/product/TLV320AIC3204/part-details/TLV320AIC3204IRHBR; Description_: Very-Low-Power Stereo Audio CODEC With PowerTune™ Technology; ki_keywords: Stereo Audio CODEC; Case/Package: VQFN; Category: Amplifiers - Op Amps, Buffer, Instrumentation; Contact Plating: Gold; Height: 1mm; Lead Free: Lead Free; Length: 5mm; Lifecycle Status: Production; Manufacturer Part Number: TLV320AIC3204IRHBR; Max Operating Temperature: 85°C; Min Operating Temperature: -40°C; Number of ADC Channels: 2; Number of D/A Converters: 2; Number of DAC Channels: 2; Pins: 32; Radiation Hardening: No; REACH SVHC: No; RoHS: Compliant; Schedule B: 8542390000, 8542390000|8542390000|8542390000|8542390000|8542390000; Thickness: 900µm; Type: General Purpose; Weight: 71.809342mg; Width: 5mm; Supplier 1: Mouser; Supplier Part Number 1: 595-V320AIC3204IRHBR; Supplier Packaging 1: Tape & Reel; Supplier Unit Price 1: $5.14; Supplier Location 1: US; DNP: *
footprint QFN-32-1EP_5x5mm_P0.5mm_EP3.3x3.3mm
pins: 1 MCLK (in), 2 BCLK (io), 3 WCLK (io), 4 DIN/MFP1 (in), 5 DOUT/MFP2 (out), 6 IOVDD (power), 7 IOVSS (power), 8 SCLK/MFP3 (in), 9 SCL/~{{SS}} (in), 10 SDA/MOSI (in), 11 MISO/MFP4 (out), 12 SPI_SELECT (in), 13 IN1_L (in), 14 IN1_R (in), 15 IN2_L (in), 16 IN2_R (in), 17 AVSS (power), 18 REF (out), 19 MICBIAS (out), 20 IN3_L (in), 21 IN3_R (in), 22 LOL (out), 23 LOR (out), 24 AVDD (power), 25 HPL (out), 26 LDOIN/HPVDD (power), 27 HPR (out), 28 DVSS (power), 29 DVDD (power), 30 LDO_SELECT (in), 31 ~{{RESET}} (in), 32 GPIO/MFP5 (in), 33 EP

## TPA5050
designator *  value TPA5050  Reference: U
Stereo Digital Audio Lip-Sync Delay Processor With I2C Control, QFN-16; ki_keywords: audio delay; ki_fp_filters: Texas?S?PVQFN?N*; Footprint: Package_DFN_QFN:Texas_S-PVQFN-N16_EP2.7x2.7mm_ThermalVias; Datasheet: http://www.ti.com/lit/ds/symlink/tpa5050.pdf; Description_: Stereo Digital Audio Lip-Sync Delay Processor With I2C Control, QFN-16
pins: 1 LRCLK, 2 DATA, 3 SCL, 4 SDA, 5 GND, 6 GND, 7 GND, 8 GND, 9 GND, 10 ADD0, 11 ADD1, 12 ADD2, 13 VDD, 14 GND, 15 DATA_OUT, 16 BCLK, 17 GND

## UDA1334ATS
designator *  value UDA1334ATS  Reference: U
Low Power Audio DAC with PLL, SSOP-16; ki_keywords: audio dac 2ch 24bit 96kHz; ki_fp_filters: SSOP*4.4x5.2mm*P0.65mm*; Footprint: Package_SO:SSOP-16_4.4x5.2mm_P0.65mm; Datasheet: http://www.nxp.com/docs/en/data-sheet/UDA1334ATS.pdf; Description_: Low Power Audio DAC with PLL, SSOP-16
pins: 1 BCK, 2 WS, 3 DATAI, 4 VDDD, 5 VSSD, 6 SYSCLK/PLL1, 7 SFOR1, 8 MUTE, 9 DEEM/CLKOUT, 10 PLL0, 11 SFOR0, 12 Vref(DAC), 13 VDDA, 14 VOUTL, 15 VSSA, 16 VOUTR

## WM8731CLSEFL
designator *  value WM8731CLSEFL  Reference: U
Portable Internet Audio CODEC with Headphone Driver and Programmable Sample Rates, QFN-28; ki_keywords: wolfson stereo audio codec adc dac headphone; ki_fp_filters: QFN*1EP*5x5mm*P0.5mm*; Footprint: Package_DFN_QFN:QFN-28-1EP_5x5mm_P0.5mm_EP3.35x3.35mm; Datasheet: https://statics.cirrus.com/pubs/proDatasheet/WM8731_v4.9.pdf; Description_: Portable Internet Audio CODEC with Headphone Driver and Programmable Sample Rates, QFN-28
pins: 1 XTI/MCLK, 2 XTO, 3 DCVDD, 4 DGND, 5 DBVDD, 6 CLKOUT, 7 BCLK, 8 DACDAT, 9 DACLRC, 10 ADCDAT, 11 ADCLRC, 12 HPVDD, 13 LHPOUT, 14 RHPOUT, 15 HPGND, 16 LOUT, 17 ROUT, 18 AVDD, 19 AGND, 20 VMID, 21 MICBIAS, 22 MICIN, 23 RLINEIN, 24 LLINEIN, 25 MODE, 26 ~{{CSB}}, 27 SDIN, 28 SCLK, 29 AGND

## WM8731CSEFL
designator *  value WM8731CSEFL  Reference: U
Portable Internet Audio CODEC with Headphone Driver and Programmable Sample Rates, QFN-28; ki_keywords: wolfson stereo audio codec adc dac headphone; ki_fp_filters: QFN*1EP*5x5mm*P0.5mm*; Footprint: Package_DFN_QFN:QFN-28-1EP_5x5mm_P0.5mm_EP3.35x3.35mm; Datasheet: https://statics.cirrus.com/pubs/proDatasheet/WM8731_v4.9.pdf; Description_: Portable Internet Audio CODEC with Headphone Driver and Programmable Sample Rates, QFN-28
pins: 1 XTI/MCLK, 2 XTO, 3 DCVDD, 4 DGND, 5 DBVDD, 6 CLKOUT, 7 BCLK, 8 DACDAT, 9 DACLRC, 10 ADCDAT, 11 ADCLRC, 12 HPVDD, 13 LHPOUT, 14 RHPOUT, 15 HPGND, 16 LOUT, 17 ROUT, 18 AVDD, 19 AGND, 20 VMID, 21 MICBIAS, 22 MICIN, 23 RLINEIN, 24 LLINEIN, 25 MODE, 26 ~{{CSB}}, 27 SDIN, 28 SCLK, 29 AGND

## WM8731SEDS
designator *  value WM8731SEDS  Reference: U
Portable Internet Audio CODEC with Headphone Driver and Programmable Sample Rates, SSOP-28; ki_keywords: wolfson stereo audio codec adc dac headphone; ki_fp_filters: SSOP*5.3x10.2mm*P0.65mm*; Footprint: Package_SO:SSOP-28_5.3x10.2mm_P0.65mm; Datasheet: https://statics.cirrus.com/pubs/proDatasheet/WM8731_v4.9.pdf; Description_: Portable Internet Audio CODEC with Headphone Driver and Programmable Sample Rates, SSOP-28
pins: 1 DBVDD, 2 CLKOUT, 3 BCLK, 4 DACDAT, 5 DACLRC, 6 ADCDAT, 7 ADCLRC, 8 HPVDD, 9 LHPOUT, 10 RHPOUT, 11 HPGND, 12 LOUT, 13 ROUT, 14 AVDD, 15 AGND, 16 VMID, 17 MICBIAS, 18 MICIN, 19 RLINEIN, 20 LLINEIN, 21 MODE, 22 ~{{CSB}}, 23 SDIN, 24 SCLK, 25 XTI/MCLK, 26 XTO, 27 DCVDD, 28 DGND

## YM2149
designator *  value YM2149  Reference: U
Software-Controlled Sound Generator, DIP-40; ki_keywords: audio ssg 3ch; ki_fp_filters: DIP*W15.24mm*; Footprint: Package_DIP:DIP-40_W15.24mm; Datasheet: http://www.ym2149.com/ym2149.pdf; Description_: Software-Controlled Sound Generator, DIP-40
pins: 1 VSS, 2 NC, 3 A, 4 B, 5 NC, 6 IOB7, 7 IOB6, 8 IOB5, 9 IOB4, 10 IOB3, 11 IOB2, 12 IOB1, 13 IOB0, 14 IOA7, 15 IOA6, 16 IOA5, 17 IOA4, 18 IOA3, 19 IOA2, 20 IOA1, 21 IOA0, 22 CLOCK, 23 ~{{RESET}}, 24 ~{{A9}}, 25 A8, 26 ~{{SEL}}, 27 BDIR, 28 BC2, 29 BC1, 30 DA7, 31 DA6, 32 DA5, 33 DA4, 34 DA3, 35 DA2, 36 DA1, 37 DA0, 38 C, 39 TEST1, 40 VCC

## YM2612
designator *  value YM2612  Reference: U
Yamaha 6-channel, 4-OP, FM sound generator (with built-in 9-bit DAC), sine-wave LFO, 8-bit PCM channel (DAC mode), DIP-24 (600 mil); ki_keywords: FM-synthesizer OPN2 NMOS stereo sound-chip low-frequency-oscillator; ki_fp_filters: DIP*W15.24mm*; Footprint: Package_DIP:DIP-24_W15.24mm; Datasheet: https://ddraig68k.com/assets/files/datasheets/YM2612.pdf; Description_: Yamaha 6-channel, 4-OP, FM sound generator (with built-in 9-bit DAC), sine-wave LFO, 8-bit PCM channel (DAC mode), DIP-24 (600 mil)
pins: 1 GND, 2 D_{0}, 3 D_{1}, 4 D_{2}, 5 D_{3}, 6 D_{4}, 7 D_{5}, 8 D_{6}, 9 D_{7}, 10 ~{{TEST}}, 11 ~{{IC}}, 12 GND, 13 ~{{IRQ}}, 14 ~{{CS}}, 15 ~{{WR}}, 16 ~{{RD}}, 17 A_{0}, 18 A_{1}, 19 AGND, 20 MOR, 21 MOL, 22 AV_{CC}, 23 V_{CC}, 24 ΦM

## YM3438
designator *  value YM3438  Reference: U
Yamaha 6-channel, 4-OP, FM sound generator (with built-in 9-bit DAC), sine-wave LFO, 8-bit PCM channel (DAC mode), CMOS version of YM2612, DIP-24 (600 mil); ki_keywords: FM-synthesizer OPN2C stereo sound-chip low-frequency-oscillator; ki_fp_filters: DIP*W15.24mm*; Footprint: Package_DIP:DIP-24_W15.24mm; Datasheet: https://retrocdn.net/images/7/76/YM3438_JP_Application_Manual.pdf; Description_: Yamaha 6-channel, 4-OP, FM sound generator (with built-in 9-bit DAC), sine-wave LFO, 8-bit PCM channel (DAC mode), CMOS version of YM2612, DIP-24 (600 mil)
pins: 1 GND, 2 D_{0}, 3 D_{1}, 4 D_{2}, 5 D_{3}, 6 D_{4}, 7 D_{5}, 8 D_{6}, 9 D_{7}, 10 ~{{TEST}}, 11 ~{{IC}}, 12 GND, 13 ~{{IRQ}}, 14 ~{{CS}}, 15 ~{{WR}}, 16 ~{{RD}}, 17 A_{0}, 18 A_{1}, 19 AGND, 20 MOR, 21 MOL, 22 AV_{CC}, 23 V_{CC}, 24 ΦM